# Altium footprint library passive.PcbLib: 17 footprints (part 2 of 2)
Each footprint in its own frame and in the unit in brackets; x right, y up, seen from the top. Pads: shape width x height; smd on the part's side, far side on the other; paste and mask are expansions set on the pad; w line width, h text height; cw(c..) or ccw(c..) is an arc to the next point about the centre after c.
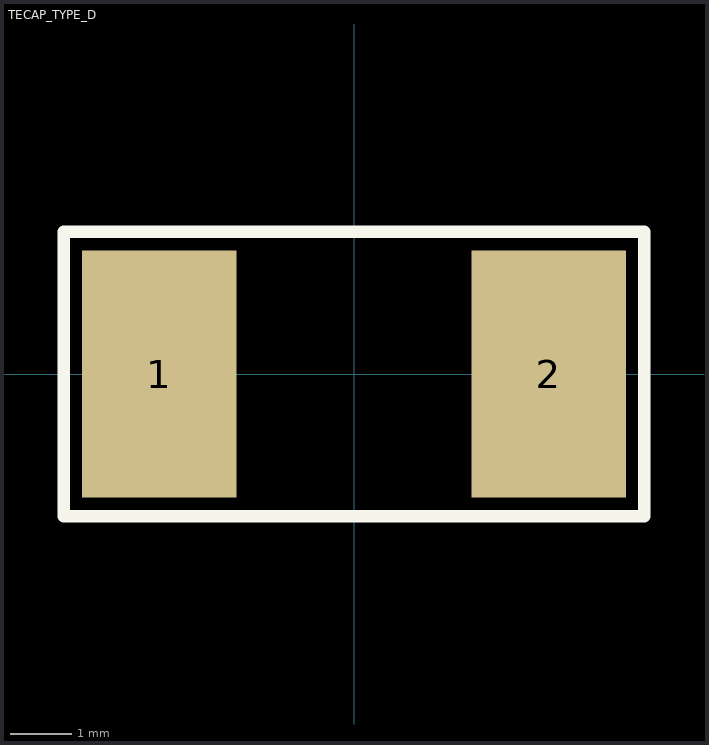
[diagram p1: the footprint, top view; thin cyan lines are the x and y axes]

## TECAP_TYPE_D [mm] "Tantalum capacitor, Type D, SMD"
pads (2):
  rect 2.5x4 smd: 1(-3.15,0) 2(3.15,0)
Top Overlay:
  lines w0.2: -4.7,-2.3 4.7,-2.3 4.7,2.3 -4.7,2.3 -4.7,-2.3
3D body "CAPM-TANTD-YL.stp": height 3.1, standoff 0, extent -3.75,-2.25 3.75,2.25